# Altium footprint library con-wago-500.PCBLIB: 11 footprints
Each footprint in its own frame and in the unit in brackets; x right, y up, seen from the top. Pads: shape width x height; smd on the part's side, far side on the other; paste and mask are expansions set on the pad; w line width, h text height; cw(c..) or ccw(c..) is an arc to the next point about the centre after c.
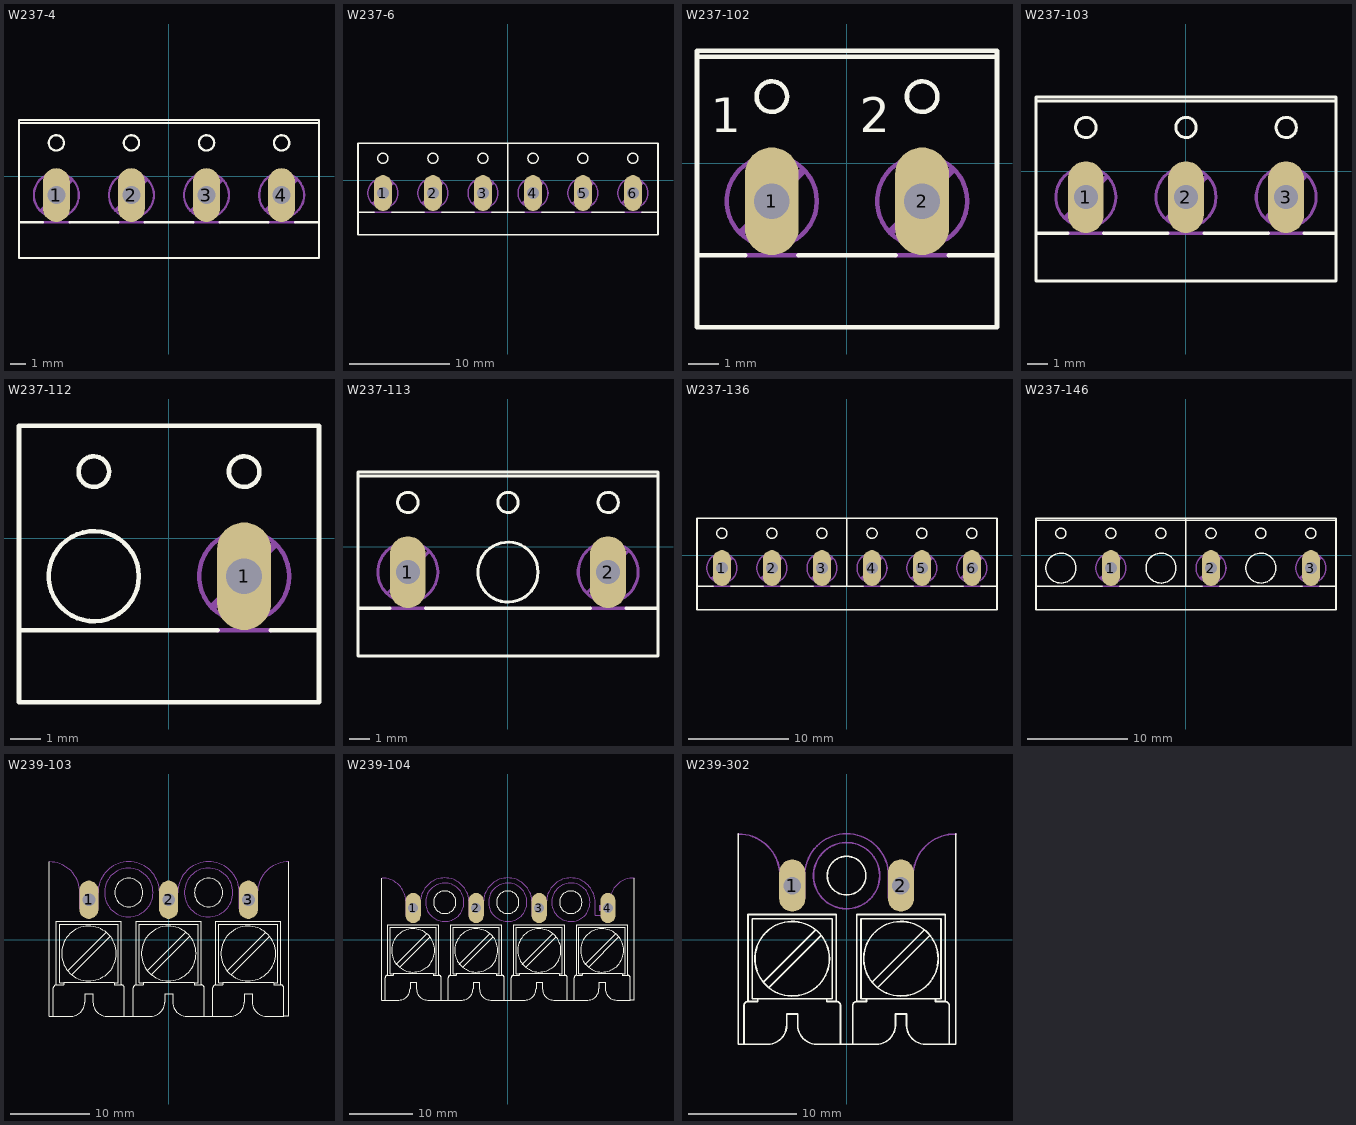
[diagram p0: the footprints below, top view; thin cyan lines are the x and y axes]

## W237-4 [mil]
pads (4):
  oval 70.5x141 hole 47: 1(-295.28,-50) 2(-98.43,-50) 3(98.43,-50) 4(295.28,-50)
Top Overlay:
  circle w6: c-295.28,87 r20
  circle w6: c-98.28,87 r20
  circle w6: c98.72,87 r20
  circle w6: c295.72,87 r20
  lines w6: -330.28,-120.98 -393.27,-120.98 ; -260.28,-120.98 -133.27,-120.98 ; -63.27,-120.98 63.74,-120.98 ; 133.74,-120.98 260.71,-120.98 ; 330.71,-120.98 393.74,-120.98 ; -393.27,-120.98 -393.27,-215 393.74,-215 393.74,-120.98 ; -393.27,-120.98 -393.27,139.02 ; -393.27,139.02 393.74,139.02 ; -393.27,139.02 -393.27,147.01 393.74,147.01 393.74,139.02 ; 393.74,-120.98 393.74,139.02
Mechanical 16:
  circle w6: c-295.28,-50 r59
  circle w6: c-98.28,-50 r59
  circle w6: c98.72,-50 r59
  circle w6: c295.72,-50 r59
  lines w6: -330.28,-120.98 -260.28,-120.98 ; -133.27,-120.98 -63.27,-120.98 ; 63.74,-120.98 133.74,-120.98 ; 260.71,-120.98 330.71,-120.98
  lines w10: -334.29,-90 -255.28,-10.98 ; -138.27,-89.02 -60.28,-10 ; 59.72,-90 138.74,-10.98 ; 255.71,-89.02 333.74,-10
  text "1" at -375.28,25 h77.5
  text "2" at -180.28,25 h77.5
  text "3" at 18.72,25 h77.5
  text "4" at 213.72,25 h77.5

## W237-6 [mil]
pads (6):
  oval 70.5x141 hole 47: 1(-492.13,-50) 2(-295.28,-50) 3(-98.43,-50) 4(98.43,-50) 5(295.28,-50) 6(492.13,-50)
Top Overlay:
  circle w6: c-492.13,87 r20
  circle w6: c-295.13,87 r20
  circle w6: c-98.13,87 r20
  circle w6: c98.87,87 r20
  circle w6: c294.87,87 r20
  circle w6: c491.87,87 r20
  lines w6: -527.13,-125 -590.12,-125 ; -457.13,-125 -330.12,-125 ; -260.12,-125 -133.11,-125 ; -63.11,-125 -0.12,-125 ; 63.86,-125 -0.12,-125 ; 133.86,-125 260.87,-125 ; 330.87,-125 457.87,-125 ; 527.87,-125 590.87,-125 ; -590.12,-125 -590.12,-215 590.87,-215 590.87,-125 ; -590.12,-125 -590.12,147.01 -0.12,147.01 ; -0.12,-125 -0.12,147.01 ; -0.12,147.01 590.87,147.01 590.87,-125
Mechanical 16:
  circle w6: c-492.13,-50 r59
  circle w6: c-295.13,-50 r59
  circle w6: c-98.13,-50 r59
  circle w6: c98.87,-50 r59
  circle w6: c294.87,-50 r59
  circle w6: c491.87,-50 r59
  lines w6: -527.13,-125 -457.13,-125 ; -330.12,-125 -260.12,-125 ; -133.11,-125 -63.11,-125 ; 63.86,-125 133.86,-125 ; 260.87,-125 330.87,-125 ; 457.87,-125 527.87,-125
  lines w10: -531.14,-90 -452.13,-10.98 ; -335.12,-89.02 -257.13,-10 ; -137.13,-90 -58.11,-10.98 ; 58.86,-89.02 136.89,-10 ; 255.87,-90 334.88,-10.98 ; 451.89,-89.02 529.88,-10
  text "1" at -572.13,25 h77.5
  text "2" at -377.13,25 h77.5
  text "3" at -178.13,25 h77.5
  text "4" at 16.87,25 h77.5
  text "5" at 214.87,25 h77.5
  text "6" at 409.87,25 h77.5

## W237-102 [mil]
pads (2):
  oval 70.5x141 hole 47: 1(-98.43,-50) 2(98.43,-50)
Top Overlay:
  circle w6: c-98.43,87 r20
  circle w6: c98.57,87 r20
  lines w6: -133.43,-120.98 -196.42,-120.98 ; -63.43,-120.98 63.58,-120.98 ; 133.58,-120.98 196.57,-120.98 ; -196.42,-120.98 -196.42,-215 196.57,-215 196.57,-120.98 ; -196.42,-120.98 -196.42,139.02 ; -196.42,139.02 196.57,139.02 ; -196.42,139.02 -196.42,147.01 196.57,147.01 196.57,139.02 ; 196.57,-120.98 196.57,139.02
  text "1" at -178.43,25 h77.5
  text "2" at 16.57,25 h77.5
Mechanical 16:
  circle w6: c-98.43,-50 r59
  circle w6: c98.57,-50 r59
  lines w6: -133.43,-120.98 -63.43,-120.98 ; 63.58,-120.98 133.58,-120.98
  lines w10: -137.44,-90 -58.43,-10.98 ; 58.58,-89.02 136.57,-10

## W237-103 [mil]
pads (3):
  oval 70.5x141 hole 47: 1(-196.85,-50.79) 2(0,-50.79) 3(196.85,-50.79)
Top Overlay:
  circle w6: c-196.85,86.21 r20
  circle w6: c197.15,86.21 r20
  circle w6: c0.15,86.21 r20
  lines w6: -231.85,-121.77 -294.84,-121.77 ; -161.85,-121.77 -34.84,-121.77 ; 35.16,-121.77 162.17,-121.77 ; 232.17,-121.77 295.16,-121.77 ; -294.84,-121.77 -294.84,-215.79 295.16,-215.79 295.16,-121.77 ; -294.84,-121.77 -294.84,138.23 ; -294.84,138.23 295.16,138.23 ; -294.84,138.23 -294.84,146.22 295.16,146.22 295.16,138.23 ; 295.16,-121.77 295.16,138.23
Mechanical 16:
  circle w6: c-196.85,-50.79 r59
  circle w6: c197.15,-50.79 r59
  circle w6: c0.15,-50.79 r59
  lines w6: -231.85,-121.77 -161.85,-121.77 ; -34.84,-121.77 35.16,-121.77 ; 162.17,-121.77 232.17,-121.77
  lines w10: -235.87,-90.79 -156.85,-11.77 ; -35.87,-91.77 39.13,-11.77 ; 161.14,-88.78 232.17,-11.77
  text "1" at -271.85,24.21 h77.5
  text "2" at -72.85,22.21 h77.5
  text "3" at 124.15,24.21 h77.5

## W237-112 [mil]
pads (1):
  oval 70.5x141 hole 47: 1(98.43,-50)
Top Overlay:
  circle w6: c-98.43,-50 r59
  circle w6: c-98.43,87 r20
  circle w6: c98.57,87 r20
  lines w6: 63.58,-120.98 -196.42,-120.98 ; 133.58,-120.98 196.57,-120.98 ; -196.42,-120.98 -196.42,-215 196.57,-215 196.57,-120.98 ; -196.42,-120.98 -196.42,147.01 196.57,147.01 196.57,-120.98
Mechanical 16:
  circle w6: c98.57,-50 r59
  lines w6: 63.58,-120.98 133.58,-120.98
  lines w10: 58.58,-89.02 136.57,-10
  text "1" at -178.43,25 h77.5
  text "2" at 16.57,25 h77.5

## W237-113 [mil]
pads (2):
  oval 70.5x141 hole 47: 1(-196.85,-50) 2(196.85,-50)
Top Overlay:
  circle w6: c-196.85,87 r20
  circle w6: c0.15,87 r20
  circle w6: c0.15,-50 r59
  circle w6: c0.15,87 r20
  circle w6: c197.15,87 r20
  lines w6: -231.85,-120.98 -294.84,-120.98 ; -161.85,-120.98 162.17,-120.98 ; 232.17,-120.98 295.16,-120.98 ; -294.84,-120.98 -294.84,-215 295.16,-215 295.16,-120.98 ; -294.84,-120.98 -294.84,139.02 ; -294.84,139.02 295.16,139.02 ; -294.84,139.02 -294.84,147.01 295.16,147.01 295.16,139.02 ; 295.16,-120.98 295.16,139.02
Mechanical 16:
  circle w6: c-196.85,-50 r59
  circle w6: c197.15,-50 r59
  lines w6: -235.87,-90 -156.85,-10.98 ; -231.85,-120.98 -161.85,-120.98 ; 157.17,-89.02 235.16,-10 ; 162.17,-120.98 232.17,-120.98
  text "1" at -276.85,25 h77.5
  text "2" at 115.15,25 h77.5

## W237-136 [mil]
pads (6):
  oval 70.5x141 hole 47: 1(-492.13,-50) 2(-295.28,-50) 3(-98.43,-50) 4(98.43,-50) 5(295.28,-50) 6(492.13,-50)
Top Overlay:
  circle w6: c-492.13,87 r20
  circle w6: c-295.13,87 r20
  circle w6: c-98.13,87 r20
  circle w6: c98.87,87 r20
  circle w6: c294.87,87 r20
  circle w6: c491.87,87 r20
  lines w6: -527.13,-120.98 -590.12,-120.98 ; -457.13,-120.98 -330.12,-120.98 ; -260.12,-120.98 -133.11,-120.98 ; -63.11,-120.98 -0.12,-120.98 ; 63.86,-120.98 -0.12,-120.98 ; 133.86,-120.98 260.87,-120.98 ; 330.87,-120.98 457.87,-120.98 ; 527.87,-120.98 590.87,-120.98 ; -590.12,-120.98 -590.12,-215 590.87,-215 590.87,-120.98 ; -590.12,-120.98 -590.12,147.01 -0.12,147.01 ; -0.12,-120.98 -0.12,147.01 ; -0.12,147.01 590.87,147.01 590.87,-120.98
Mechanical 16:
  circle w6: c-492.13,-50 r59
  circle w6: c-295.13,-50 r59
  circle w6: c-98.13,-50 r59
  circle w6: c98.87,-50 r59
  circle w6: c294.87,-50 r59
  circle w6: c491.87,-50 r59
  lines w6: -527.13,-120.98 -457.13,-120.98 ; -330.12,-120.98 -260.12,-120.98 ; -133.11,-120.98 -63.11,-120.98 ; 63.86,-120.98 133.86,-120.98 ; 260.87,-120.98 330.87,-120.98 ; 457.87,-120.98 527.87,-120.98
  lines w10: -531.14,-90 -452.13,-10.98 ; -335.12,-89.02 -257.13,-10 ; -137.13,-90 -58.11,-10.98 ; 58.86,-89.02 136.89,-10 ; 255.87,-90 334.88,-10.98 ; 451.89,-89.02 529.88,-10
  text "1" at -572.13,25 h77.5
  text "2" at -377.13,25 h77.5
  text "3" at -178.13,25 h77.5
  text "4" at 16.87,25 h77.5
  text "5" at 214.87,25 h77.5
  text "6" at 409.87,25 h77.5

## W237-146 [mil]
pads (3):
  oval 70.5x141 hole 47: 1(-295.28,-50) 2(98.43,-50) 3(492.13,-50)
Top Overlay:
  circle w6: c-492.13,-50 r59
  circle w6: c-492.13,87 r20
  circle w6: c-295.13,87 r20
  circle w6: c-98.13,-50 r59
  circle w6: c-98.13,87 r20
  circle w6: c98.87,87 r20
  circle w6: c294.87,-50 r59
  circle w6: c294.87,87 r20
  circle w6: c491.87,87 r20
  lines w6: -330.12,-120.98 -590.12,-120.98 ; -260.12,-120.98 -0.12,-120.98 ; 63.86,-120.98 -0.12,-120.98 ; 133.86,-120.98 457.87,-120.98 ; 527.87,-120.98 590.87,-120.98 ; -590.12,-120.98 -590.12,-215 590.87,-215 590.87,-120.98 ; -590.12,-120.98 -590.12,139.02 ; -590.12,139.02 590.87,139.02 ; -590.12,139.02 -590.12,147.01 -0.12,147.01 ; -0.12,-120.98 -0.12,147.01 ; -0.12,147.01 590.87,147.01 590.87,139.02 ; 590.87,-120.98 590.87,139.02
Mechanical 16:
  circle w6: c-295.13,-50 r59
  circle w6: c98.87,-50 r59
  circle w6: c491.87,-50 r59
  lines w6: -330.12,-120.98 -260.12,-120.98 ; 63.86,-120.98 133.86,-120.98 ; 457.87,-120.98 527.87,-120.98
  lines w10: -335.12,-89.02 -257.13,-10 ; 58.86,-89.02 136.89,-10 ; 451.89,-89.02 529.88,-10
  text "1" at -377.13,25 h77.5
  text "2" at 16.87,25 h77.5
  text "3" at 409.87,25 h77.5

## W239-103 [mil]
pads (3):
  oval 94.5x189 hole 63: 1(-393.7,196.85) 2(0,196.85) 3(393.7,196.85)
Top Overlay:
  circle w6: c-393.7,-68.15 r135
  circle w6: c-196.7,232.85 r70
  circle w6: c0.3,-68.15 r135
  circle w6: c197.3,232.85 r70
  circle w6: c393.3,-68.15 r135
  lines w6: -589.69,383.86 -589.69,-378.15 -568.7,-378.15 ; -498.7,-153.15 -308.7,36.85 ; -483.7,-378.15 ccw(c-483.7,-308.15) -413.7,-308.15 -413.7,-268.15 -373.7,-268.15 -373.7,-308.15 ccw(c-303.7,-308.15) -303.7,-378.15 -218.7,-378.15 ; -482.72,-378.15 -568.7,-378.15 ; -478.7,-173.15 -288.7,16.85 ; -104.69,-153.15 85.32,36.85 ; -89.69,-378.15 ccw(c-89.69,-308.15) -19.69,-308.15 -19.69,-268.15 20.32,-268.15 20.32,-308.15 ccw(c90.32,-308.15) 90.32,-378.15 175.32,-378.15 ; -88.7,-378.15 -174.69,-378.15 ; -84.69,-173.15 105.32,16.85 ; 288.31,-153.15 478.31,36.85 ; 303.31,-378.15 ccw(c303.31,-308.15) 373.31,-308.15 373.31,-268.15 413.31,-268.15 413.31,-308.15 ccw(c483.31,-308.15) 483.31,-378.15 568.31,-378.15 ; 304.29,-378.15 218.31,-378.15 ; 308.31,-173.15 498.31,16.85 ; 593.31,383.86 593.31,-378.15 568.31,-378.15 ; -568.7,-378.15 -568.7,-238.15 cw(c-553.7,-238.15) -553.7,-223.15 ; -553.7,-223.15 -518.7,-223.15 -518.7,-213.15 ; -553.7,-223.15 -553.7,91.85 -233.7,91.85 -233.7,-223.15 ; -518.7,-213.15 -538.7,-213.15 -538.7,76.85 -248.7,76.85 -248.7,-213.15 -268.7,-213.15 ; -518.7,-213.15 -268.7,-213.15 ; -268.7,-213.15 -268.7,-223.15 -233.7,-223.15 ; -233.7,-223.15 cw(c-233.7,-238.15) -218.7,-238.15 -218.7,-378.15 ; -218.7,-378.15 -174.69,-378.15 ; -174.69,-378.15 -174.69,-238.15 cw(c-159.69,-238.15) -159.69,-223.15 ; -159.69,-223.15 -124.69,-223.15 -124.69,-213.15 ; -159.69,-223.15 -159.69,91.85 160.32,91.85 160.32,-223.15 ; -124.69,-213.15 -144.69,-213.15 -144.69,76.85 145.32,76.85 145.32,-213.15 125.32,-213.15 ; -124.69,-213.15 125.32,-213.15 ; 125.32,-213.15 125.32,-223.15 160.32,-223.15 ; 160.32,-223.15 cw(c160.32,-238.15) 175.32,-238.15 175.32,-378.15 ; 175.32,-378.15 218.31,-378.15 ; 218.31,-378.15 218.31,-238.15 cw(c233.31,-238.15) 233.31,-223.15 ; 233.31,-223.15 268.31,-223.15 268.31,-213.15 ; 233.31,-223.15 233.31,91.85 553.31,91.85 553.31,-223.15 ; 268.31,-213.15 248.31,-213.15 248.31,76.85 538.31,76.85 538.31,-213.15 518.31,-213.15 ; 268.31,-213.15 518.31,-213.15 ; 518.31,-213.15 518.31,-223.15 553.31,-223.15 ; 553.31,-223.15 cw(c553.31,-238.15) 568.31,-238.15 568.31,-378.15
Mechanical 16:
  circle w6: c-196.7,232.85 r120
  circle w6: c197.3,232.85 r120
  rectangle: -413.7,176.85 -373.7,216.85
  rectangle: -19.7,176.85 20.3,216.85
  rectangle: 373.3,176.85 413.3,216.85
  lines w6: -588.7,383.86 cw(c-588.7,233.83) -438.69,231.85 -438.7,151.85 -348.7,151.85 -348.7,232.83 cw(c-196.7,232.83) -44.7,232.83 -44.69,151.85 45.32,151.85 45.32,232.83 cw(c197.32,232.83) 349.32,232.83 349.29,151.85 438.31,151.85 438.31,231.85 cw(c590.29,231.85) 593.56,383.8
  text "1" at -491.7,-295.15 h77.5
  text "2" at -98.7,-295.15 h77.5
  text "3" at 295.3,-295.15 h77.5

## W239-104 [mil]
pads (4):
  oval 94.5x189 hole 63: 1(-590.55,196.85) 2(-196.85,196.85) 3(196.85,196.85) 4(625.98,196.85)
Top Overlay:
  circle w6: c-590.55,-68.15 r135
  circle w6: c-393.55,232.85 r70
  circle w6: c-196.55,-68.15 r135
  circle w6: c394.45,232.85 r70
  circle w6: c590.45,-68.15 r135
  circle w6: c0.45,232.85 r70
  circle w6: c197.45,-68.15 r135
  lines w6: -786.54,383.86 -786.54,-378.15 -765.55,-378.15 ; -695.55,-153.15 -505.55,36.85 ; -680.55,-378.15 ccw(c-680.55,-308.15) -610.55,-308.15 -610.55,-268.15 -570.55,-268.15 -570.55,-308.15 ccw(c-500.55,-308.15) -500.55,-378.15 -415.55,-378.15 ; -679.57,-378.15 -765.55,-378.15 ; -675.55,-173.15 -485.55,16.85 ; -301.54,-153.15 -111.54,36.85 ; -286.54,-378.15 ccw(c-286.54,-308.15) -216.54,-308.15 -216.54,-268.15 -176.54,-268.15 -176.54,-308.15 ccw(c-106.54,-308.15) -106.54,-378.15 -21.54,-378.15 ; -285.55,-378.15 -371.54,-378.15 ; -281.54,-173.15 -91.54,16.85 ; 92.44,-153.15 282.44,36.85 ; 107.44,-378.15 ccw(c107.44,-308.15) 177.44,-308.15 177.44,-268.15 217.44,-268.15 217.44,-308.15 ccw(c287.44,-308.15) 287.44,-378.15 372.44,-378.15 ; 108.46,-378.15 22.44,-378.15 ; 112.44,-173.15 302.44,16.85 ; 485.43,-153.15 675.43,36.85 ; 500.43,-378.15 ccw(c500.43,-308.15) 570.43,-308.15 570.43,-268.15 610.43,-268.15 610.43,-308.15 ccw(c680.43,-308.15) 680.43,-378.15 765.43,-378.15 ; 501.46,-378.15 415.43,-378.15 ; 505.43,-173.15 695.43,16.85 ; 790.43,383.86 790.43,-378.15 765.43,-378.15 ; -765.55,-378.15 -765.55,-238.15 cw(c-750.55,-238.15) -750.55,-223.15 ; -750.55,-223.15 -715.55,-223.15 -715.55,-213.15 ; -750.55,-223.15 -750.55,91.85 -430.55,91.85 -430.55,-223.15 ; -715.55,-213.15 -735.55,-213.15 -735.55,76.85 -445.55,76.85 -445.55,-213.15 -465.55,-213.15 ; -715.55,-213.15 -465.55,-213.15 ; -465.55,-213.15 -465.55,-223.15 -430.55,-223.15 ; -430.55,-223.15 cw(c-430.55,-238.15) -415.55,-238.15 -415.55,-378.15 ; -415.55,-378.15 -371.54,-378.15 ; -371.54,-378.15 -371.54,-238.15 cw(c-356.54,-238.15) -356.54,-223.15 ; -356.54,-223.15 -321.54,-223.15 -321.54,-213.15 ; -356.54,-223.15 -356.54,91.85 -36.54,91.85 -36.54,-223.15 ; -321.54,-213.15 -341.54,-213.15 -341.54,76.85 -51.54,76.85 -51.54,-213.15 -71.54,-213.15 ; -321.54,-213.15 -71.54,-213.15 ; -71.54,-213.15 -71.54,-223.15 -36.54,-223.15 ; -36.54,-223.15 cw(c-36.54,-238.15) -21.54,-238.15 -21.54,-378.15 ; -21.54,-378.15 22.44,-378.15 ; 22.44,-378.15 22.44,-238.15 cw(c37.44,-238.15) 37.44,-223.15 ; 37.44,-223.15 72.44,-223.15 72.44,-213.15 ; 37.44,-223.15 37.44,91.85 357.44,91.85 357.44,-223.15 ; 72.44,-213.15 52.44,-213.15 52.44,76.85 342.44,76.85 342.44,-213.15 322.44,-213.15 ; 72.44,-213.15 322.44,-213.15 ; 322.44,-213.15 322.44,-223.15 357.44,-223.15 ; 357.44,-223.15 cw(c357.44,-238.15) 372.44,-238.15 372.44,-378.15 ; 372.44,-378.15 415.43,-378.15 ; 415.43,-378.15 415.43,-238.15 cw(c430.43,-238.15) 430.43,-223.15 ; 430.43,-223.15 465.43,-223.15 465.43,-213.15 ; 430.43,-223.15 430.43,91.85 750.43,91.85 750.43,-223.15 ; 465.43,-213.15 445.43,-213.15 445.43,76.85 735.43,76.85 735.43,-213.15 715.43,-213.15 ; 465.43,-213.15 715.43,-213.15 ; 715.43,-213.15 715.43,-223.15 750.43,-223.15 ; 750.43,-223.15 cw(c750.43,-238.15) 765.43,-238.15 765.43,-378.15
Mechanical 16:
  circle w6: c-393.55,232.85 r120
  circle w6: c394.45,232.85 r120
  circle w6: c0.45,232.85 r120
  rectangle: -610.55,176.85 -570.55,216.85
  rectangle: 570.45,176.85 610.45,216.85
  rectangle: -216.55,176.85 -176.55,216.85
  rectangle: 176.45,176.85 216.45,216.85
  lines w6: -785.55,383.86 cw(c-785.55,233.83) -635.54,231.85 -635.55,151.85 -545.55,151.85 -545.55,232.83 cw(c-393.55,232.83) -241.55,232.83 -241.54,151.85 -151.54,151.85 -151.54,232.83 cw(c0.46,232.83) 152.46,232.83 152.45,151.85 ; 151.45,151.85 152.45,151.85 ; 241.46,151.85 152.45,151.85 ; 242.44,151.85 242.44,232.83 cw(c394.44,232.83) 546.44,232.83 546.46,151.85 635.43,151.85 635.43,231.85 cw(c787.42,231.85) 790.69,383.8
  text "1" at -688.55,-295.15 h77.5
  text "2" at -295.55,-295.15 h77.5
  text "3" at 98.45,-295.15 h77.5
  text "4" at 492.45,-295.15 h77.5

## W239-302 [mil]
pads (2):
  oval 94.5x189 hole 63: 1(-196.85,196.85) 2(196.85,196.85)
Top Overlay:
  circle w6: c-196.85,-68.15 r135
  circle w6: c0.15,232.85 r70
  circle w6: c197.15,-68.15 r135
  lines w6: -392.85,383.85 -392.85,-378.15 -371.85,-378.15 ; -301.85,-153.15 -111.85,36.85 ; -286.85,-378.15 ccw(c-286.85,-308.15) -216.85,-308.15 -216.85,-268.15 -176.85,-268.15 -176.85,-308.15 ccw(c-106.85,-308.15) -106.85,-378.15 -21.85,-378.15 ; -285.85,-378.15 -371.85,-378.15 ; -281.85,-173.15 -91.85,16.85 ; 92.15,-153.15 282.17,36.85 ; 107.17,-378.15 ccw(c107.17,-308.15) 177.17,-308.15 177.17,-268.15 217.17,-268.15 217.17,-308.15 ccw(c287.17,-308.15) 287.17,-378.15 372.15,-378.15 ; 108.15,-378.15 22.17,-378.15 ; 112.15,-173.15 302.17,16.85 ; 396.15,383.85 396.15,-378.15 372.15,-378.15 ; -371.85,-378.15 -371.85,-238.15 cw(c-356.85,-238.15) -356.85,-223.15 ; -356.85,-223.15 -321.85,-223.15 -321.85,-213.15 ; -356.85,-223.15 -356.85,91.85 -36.85,91.85 -36.85,-223.15 ; -321.85,-213.15 -341.85,-213.15 -341.85,76.85 -51.85,76.85 -51.85,-213.15 -71.85,-213.15 ; -321.85,-213.15 -71.85,-213.15 ; -71.85,-213.15 -71.85,-223.15 -36.85,-223.15 ; -36.85,-223.15 cw(c-36.85,-238.15) -21.85,-238.15 -21.85,-378.15 ; -21.85,-378.15 22.17,-378.15 ; 22.17,-378.15 22.17,-238.15 cw(c37.17,-238.15) 37.17,-223.15 ; 37.17,-223.15 72.15,-223.15 72.15,-213.15 ; 37.17,-223.15 37.17,91.85 357.17,91.85 357.17,-223.15 ; 72.15,-213.15 52.17,-213.15 52.17,76.85 342.17,76.85 342.17,-213.15 322.17,-213.15 ; 72.15,-213.15 322.17,-213.15 ; 322.17,-213.15 322.17,-223.15 357.17,-223.15 ; 357.17,-223.15 cw(c357.17,-238.15) 372.17,-238.15 372.15,-378.15
Mechanical 16:
  circle w6: c0.15,232.85 r120
  rectangle: -216.85,176.85 -176.85,216.85
  rectangle: 177.15,176.85 217.15,216.85
  lines w6: -391.85,383.86 cw(c-391.85,233.83) -241.83,231.85 -241.85,151.85 -151.85,151.85 -151.85,232.85 cw(c0.15,232.85) 152.15,232.85 152.15,151.85 242.15,151.85 242.15,232.85 ; 241.15,231.85 cw(c393.14,231.85) 396.41,383.8
  text "1" at -294.85,-295.15 h77.5
  text "2" at 98.15,-295.15 h77.5